# Altium schematic symbol library Capacitor_0603_20_percent.SchLib: 1 symbol
Pins are listed as number, name and electrical type; pins without a type are passive.

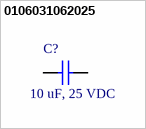
[diagram p0: symbol 0106031062025]

## 0106031062025
designator C?, comment 10 uF, 25 VDC
CAP, size 0603, 10 uF, 25 VDC, 20%; Manufacturer: Samsung Electro-Mechanics; Manufacturer Part Number: CL10A106MA8NRNC; Capacitance: 10 uF; Tolerance: +/-20%; Voltage Rating DC: 25 VDC; Value: 10 uF; Packaging: Tape and Reel; Supplier 1 URL: https://www.mouser.vn/ProductDetail/Samsung-Electro-Mechanics/CL10A106MA8NRNC?qs=47mY1nHWefS2vFRvRJVTdQ%3D%3D; Supplier 2 URL: https://www.digikey.com/en/products/detail/samsung-electro-mechanics/CL10A106MA8NRNC/3887527?s=N4IgTCBcDaIMIBkCMAGAgqgbAWTQDgDkAlAuEAXQF8g; Supplier 3 URL: https://www.thegioiic.com/tu-gom-0603-10uf-25v; Supplier 1: Mouser; Supplier 1 Part Number: 187-CL10A106MA8NRNC; Supplier 2: Digi-Key; Supplier 2 Part Number: 1276-1869-2-ND; Supplier 3: thegioiic; Supplier 3 Part Number: N/A; ComponentLink1Description: Datasheet; ComponentLink1URL: https://www.mouser.vn/datasheet/2/585/MLCC-1837944.pdf; Mount: SMD/SMT; Operating Temperature Max: + 85 C; Operating Temperature Min: - 40 C; Package / Case: 0603; LCSC Part #: C96446
footprint CAP_0603
simulation model C_Capacitor_Default (Model Description)
signal-integrity model CapModel
pins: 1, 2